# Altium footprint library DC2342A-4-LAYOUT-ASCII.PcbLib: 20 footprints (part 2 of 2)
Each footprint in its own frame and in the unit in brackets; x right, y up, seen from the top. Pads: shape width x height; smd on the part's side, far side on the other; paste and mask are expansions set on the pad; w line width, h text height; cw(c..) or ccw(c..) is an arc to the next point about the centre after c.
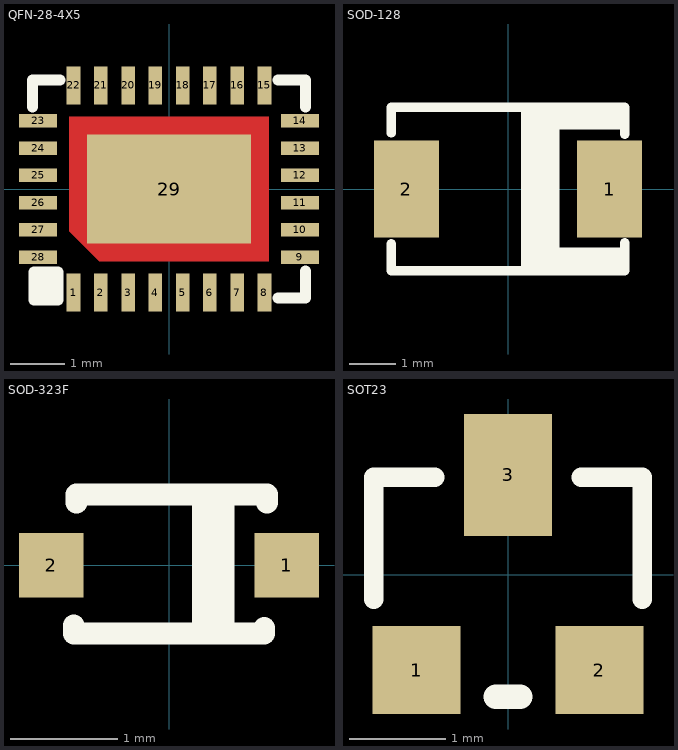
[diagram p1: the footprints below, top view; thin cyan lines are the x and y axes]

## QFN-28-4X5 [mm]
pads (29):
  rect 0.25x0.7 smd: 1(-1.75,-1.9) 2(-1.25,-1.9) 3(-0.75,-1.9) 4(-0.25,-1.9) 5(0.25,-1.9) 6(0.75,-1.9) 7(1.25,-1.9) 8(1.75,-1.9) 15(1.75,1.9) 16(1.25,1.9) 17(0.75,1.9) 18(0.25,1.9) 19(-0.25,1.9) 20(-0.75,1.9) 21(-1.25,1.9) 22(-1.75,1.9)
  rect 0.7x0.25 smd: 9(2.4,-1.25) 10(2.4,-0.75) 11(2.4,-0.25) 12(2.4,0.25) 13(2.4,0.75) 14(2.4,1.25) 23(-2.4,1.25) 24(-2.4,0.75) 25(-2.4,0.25) 26(-2.4,-0.25) 27(-2.4,-0.75) 28(-2.4,-1.25)
  rect 3x2 smd: 29(0,0)
Top Layer:
  region: -1.825,1.325 -1.825,-0.779 -1.279,-1.325 1.825,-1.325 1.825,1.325
Top Overlay:
  lines w0.203: -2.5,1.5 -2.5,2 -2,2 ; 2,-2 2.5,-2 2.5,-1.5 ; 2,2 2.5,2 2.5,1.5 ; -2.476,-2.032 -2.476,-1.524 -2.032,-1.524 -2.032,-2.032 -2.476,-2.032 ; -2.413,-1.841 -2.413,-1.651 -2.159,-1.651 -2.159,-1.841 -2.413,-1.841
Mechanical 20:
  region: 0.178,1.143 1.651,1.143 1.651,0.178 0.178,0.178
  region: 0.178,-0.178 1.651,-0.178 1.651,-1.143 0.178,-1.143
  region: -1.651,-0.178 -1.651,-0.699 -1.206,-1.143 -0.178,-1.143 -0.178,-0.178
  region: -1.651,1.143 -0.178,1.143 -0.178,0.178 -1.651,0.178

## SOD-128 [mil]
pads (2):
  rect 56x83 smd: 1(87,0) 2(-87,0)
Top Overlay:
  lines w8: -100,-47 -100,-70 100,-70 100,-46 ; -100,48 -100,70 100,70 100,47 ; 15,-65 25,-65 25,65 15,65 15,-65 ; 20,-65 20,65 30,65 30,-65 20,-65 ; 35,-66 35,64 40,64 40,-66 35,-66 ; 40,55 95,55 95,61 40,61 40,55 ; 40,60 95,60 95,66 40,66 40,60 ; 45,-65 100,-65 100,-59 45,-59 45,-65 ; 45,-60 100,-60 100,-54 45,-54 45,-60

## SOD-323F [mm]
pads (2):
  rrect0% 0.6x0.6 smd: 1(1.1,0) 2(-1.1,0)
Top Overlay:
  lines w0.203: -0.889,-0.559 -0.889,-0.635 0.889,-0.635 0.889,-0.584 ; -0.864,0.584 -0.864,0.66 0.889,0.66 ; 0.305,-0.61 0.318,-0.61 0.318,0.635 0.508,0.635 0.508,-0.61 ; 0.914,0.584 0.914,0.66

## SOT23 [mil]
pads (3):
  rect 36x36 smd: 1(-37.5,-39) 2(37.5,-39)
  rect 36x50 smd: 3(0,41)
Top Overlay:
  lines w8: -55,-10 -55,40 -30,40 ; 30,40 55,40 55,-10
  lines w10: -5,-50 5,-50